# Altium footprint library SDR0604-150YL.PcbLib: 1 footprints
Each footprint in its own frame and in the unit in brackets; x right, y up, seen from the top. Pads: shape width x height; smd on the part's side, far side on the other; paste and mask are expansions set on the pad; w line width, h text height; cw(c..) or ccw(c..) is an arc to the next point about the centre after c.
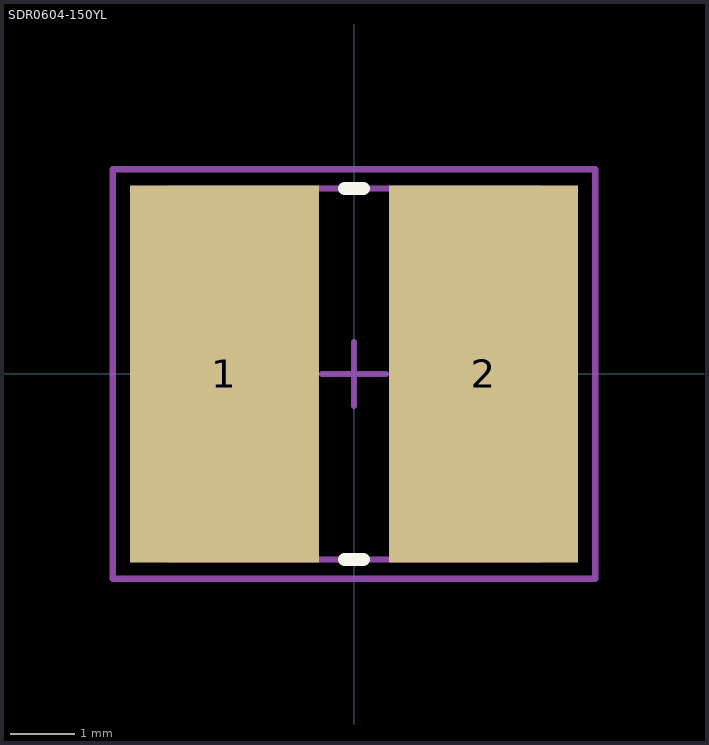
[diagram p0: the footprint, top view; thin cyan lines are the x and y axes]

## SDR0604-150YL [mm] "BOURNS - SDR0604-150YL - INDUCTOR, SMD, 15UH, 1.6A"
height 4.8
pads (2):
  rect 2.95x5.9 smd: 1(-2.025,0) 2(2.025,0)
Top Overlay:
  lines w0.2: -0.15,-2.9 0.15,-2.9 ; -0.15,2.9 0.15,2.9
Mechanical 13:
  lines w0.1: -2.9,-2.9 2.9,-2.9 2.9,2.9 -2.9,2.9 -2.9,-2.9
Mechanical 15:
  lines w0.1: -0.5,0 0.5,0 ; 0,-0.5 0,0.5 ; -3.775,-3.2 3.775,-3.2 3.775,3.2 -3.775,3.2 -3.775,-3.2
3D body: height 4.8, standoff 0, extent -2.9,-2.879 2.9,2.921